# EAGLE library part NX3L4051PW,118 (library NX3L4051PW,118)
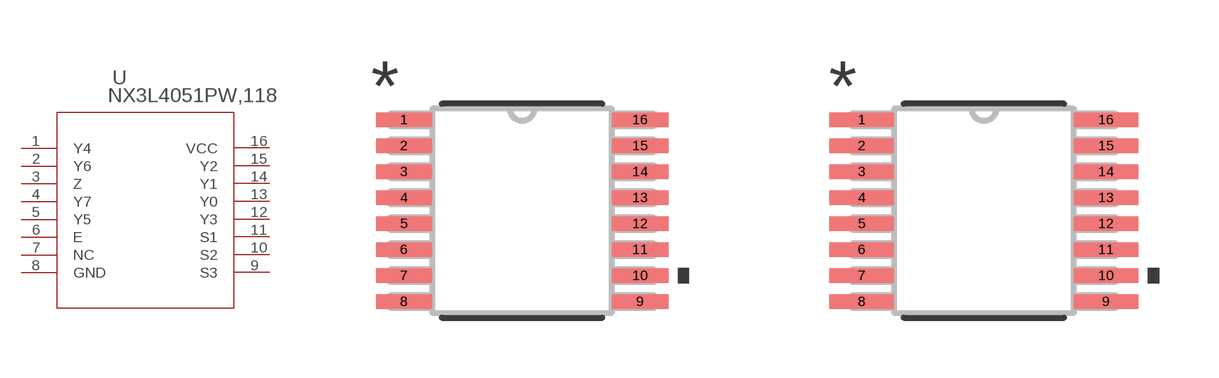
[diagram p0: symbol with the pads of TSSOP16_NXP; footprints TSSOP16_NXP, TSSOP16_NXP-M]

Designator prefix U

## NX3L4051PW,118TSSOP16_NXP (COPYRIGHT: Copyright (C) 2024 Ultra Librarian. All rights reserved.; MANUFACTURER_PART_NUMBER: NX3L4051PW,118; MFR_NAME: NXP)  [TSSOP16_NXP]
1  Y4
2  Y6
3  Z
4  Y7
5  Y5
6  E  in
7  NC  nc
8  GND  pas
9  S3  in
10  S2  in
11  S1  in
12  Y3
13  Y0
14  Y1
15  Y2
16  VCC  pwr

## NX3L4051PW,118TSSOP16_NXP-M (COPYRIGHT: Copyright (C) 2024 Ultra Librarian. All rights reserved.; MANUFACTURER_PART_NUMBER: NX3L4051PW,118; MFR_NAME: NXP)  [TSSOP16_NXP-M]
Pads as for TSSOP16_NXP

## NX3L4051PW,118TSSOP16_NXP-L (COPYRIGHT: Copyright (C) 2024 Ultra Librarian. All rights reserved.; MANUFACTURER_PART_NUMBER: NX3L4051PW,118; MFR_NAME: NXP)  [TSSOP16_NXP-L]
Pads as for TSSOP16_NXP

## Footprint TSSOP16_NXP (pad centres in mm)
smd 1.41 x 0.356: 1 -2.953,2.275; 2 -2.953,1.625; 3 -2.953,0.975; 4 -2.953,0.325; 5 -2.953,-0.325; 6 -2.953,-0.975; 7 -2.953,-1.625; 8 -2.953,-2.275; 9 2.953,-2.275; 10 2.953,-1.625; 11 2.953,-0.975; 12 2.953,-0.325; 13 2.953,0.325; 14 2.953,0.975; 15 2.953,1.625; 16 2.953,2.275

## Footprint TSSOP16_NXP-M (pad centres in mm)
smd 1.613 x 0.356: 1 -3.054,2.275; 2 -3.054,1.625; 3 -3.054,0.975; 4 -3.054,0.325; 5 -3.054,-0.325; 6 -3.054,-0.975; 7 -3.054,-1.625; 8 -3.054,-2.275; 9 3.054,-2.275; 10 3.054,-1.625; 11 3.054,-0.975; 12 3.054,-0.325; 13 3.054,0.325; 14 3.054,0.975; 15 3.054,1.625; 16 3.054,2.275

## Footprint TSSOP16_NXP-L (pad centres in mm)
smd 1.168 x 0.305: 1 -2.87,2.275; 2 -2.87,1.625; 3 -2.87,0.975; 4 -2.87,0.325; 5 -2.87,-0.325; 6 -2.87,-0.975; 7 -2.87,-1.625; 8 -2.87,-2.275; 9 2.87,-2.275; 10 2.87,-1.625; 11 2.87,-0.975; 12 2.87,-0.325; 13 2.87,0.325; 14 2.87,0.975; 15 2.87,1.625; 16 2.87,2.275